# Altium footprint library SIM800C.PcbLib: 1 footprints
Each footprint in its own frame and in the unit in brackets; x right, y up, seen from the top. Pads: shape width x height; smd on the part's side, far side on the other; paste and mask are expansions set on the pad; w line width, h text height; cw(c..) or ccw(c..) is an arc to the next point about the centre after c.
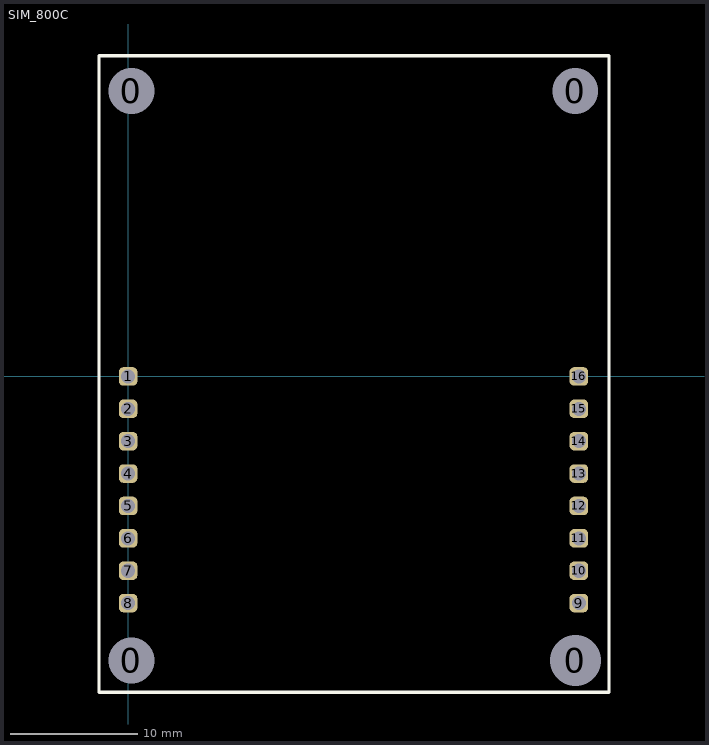
[diagram p0: the footprint, top view; thin cyan lines are the x and y axes]

## SIM_800C [mm]
pads (20):
  round 3.5 hole 3.6: 0(0.25,-22.28) 0(0.25,22.4) 0(35.07,22.4)
  oval 3.5x3.6 hole 4: 0(35.07,-22.28)
  rrect50% 1.456x1.456 hole 1.1: 1(0,0) 2(0,-2.54) 3(0,-5.08) 4(0,-7.62) 5(0,-10.16) 6(0,-12.7) 7(0,-15.24) 8(0,-17.78) 9(35.35,-17.78) 10(35.35,-15.24) 11(35.35,-12.7) 12(35.35,-10.16) 13(35.35,-7.62) 14(35.35,-5.08) 15(35.35,-2.54) 16(35.35,0)
Top Overlay:
  lines w0.254: -2.286,-24.765 -2.286,25.146 37.715,25.146 37.719,-24.765 -2.286,-24.765
  text "." at 1.016,0.813 h1.52